# EAGLE library part JUMPER_JP4Q (library SDI12IB_v0.5)
JUMPER
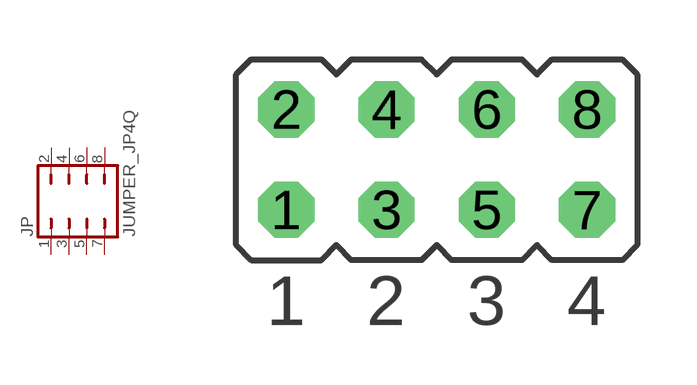
[diagram p0: symbol with the pads of JUMPER_JP4Q; footprint JUMPER_JP4Q]

Designator prefix JP

## JUMPER_JP4Q  [JUMPER_JP4Q]
1  1  pas
2  2  pas
3  3  pas
4  4  pas
5  5  pas
6  6  pas
7  7  pas
8  8  pas

## Footprint JUMPER_JP4Q (pad centres in mm)
JUMPER
drill 0.914 octagon: 1 -3.81,-1.27; 2 -3.81,1.27; 3 -1.27,-1.27; 4 -1.27,1.27; 5 1.27,-1.27; 6 1.27,1.27; 7 3.81,-1.27; 8 3.81,1.27